# Altium schematic symbol library Schlib1_1.SchLib: 12 symbols
Pins are listed as number, name and electrical type; pins without a type are passive.

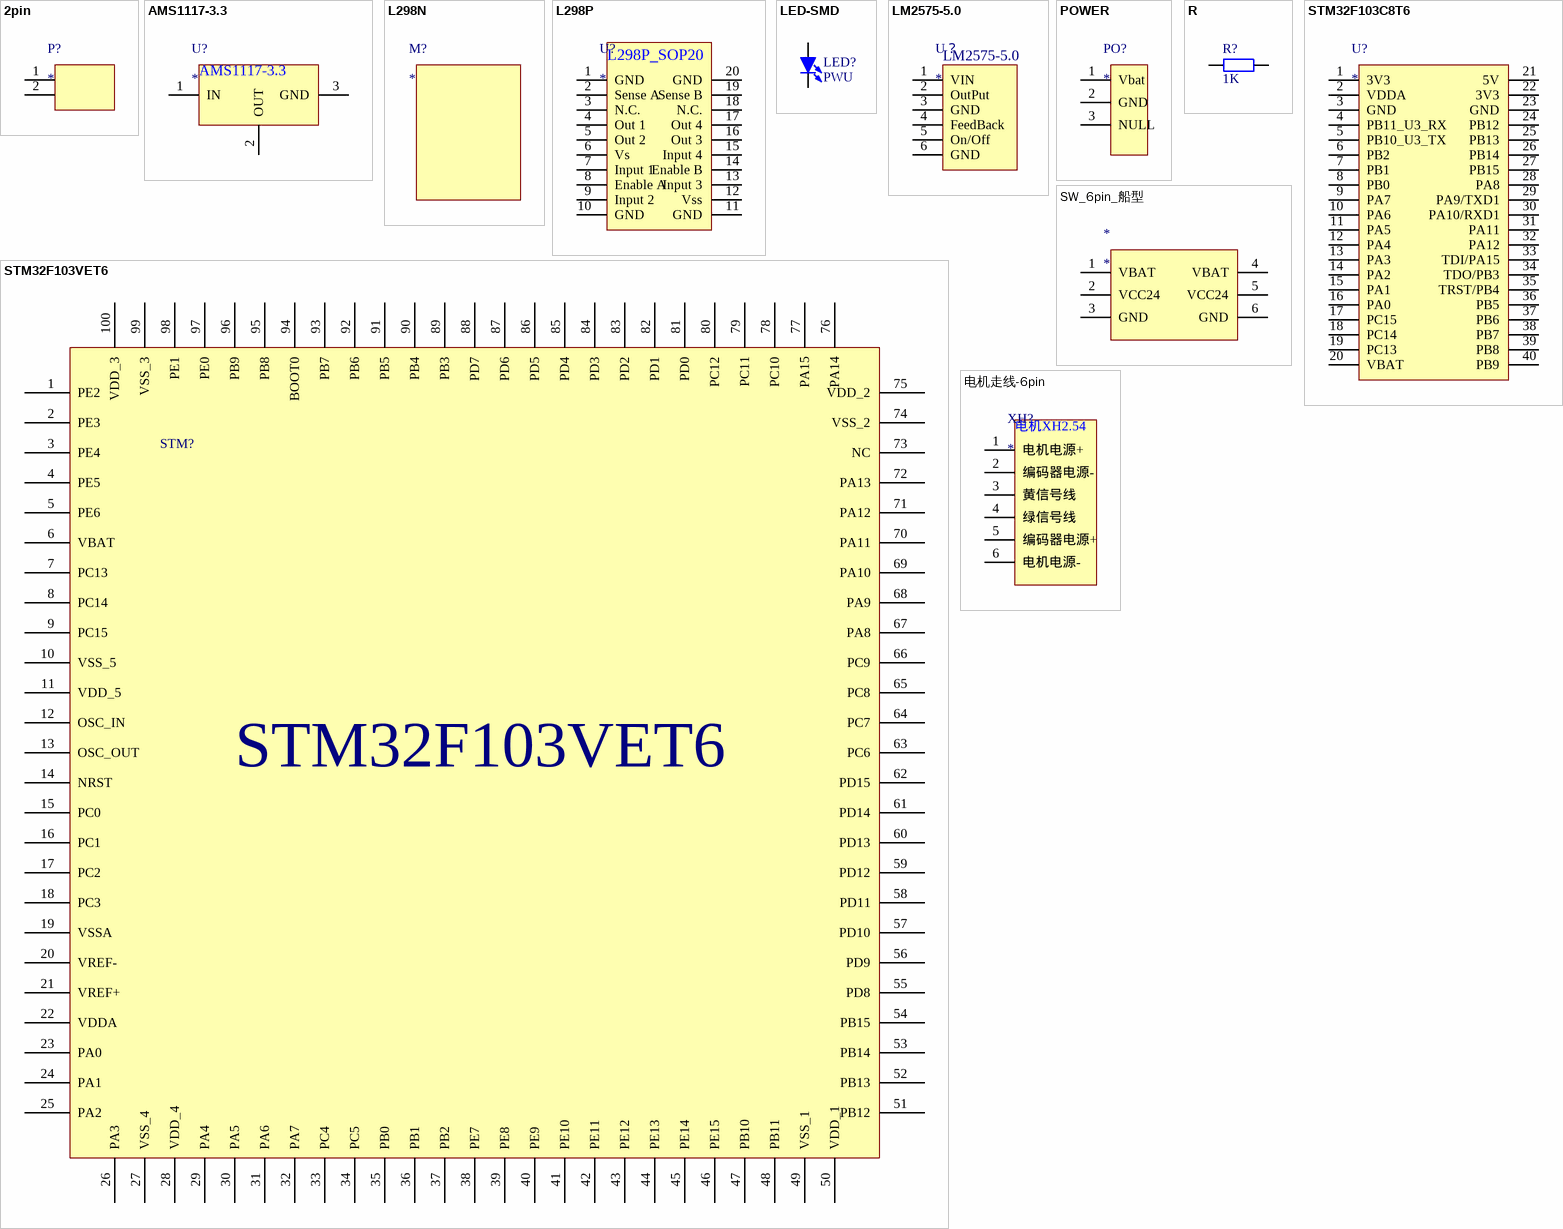
[diagram p0: symbols 2pin to 电机走线-6pin]

## 2pin
designator P?
pins: 1, 2

## AMS1117-3.3
designator U?
pins: 1 IN, 2 OUT, 3 GND

## L298N
designator M?
买好的L298N模块

## L298P
designator U?
pins: 1 GND, 2 Sense A, 3 N.C., 4 Out 1, 5 Out 2, 6 Vs, 7 Input 1, 8 Enable A, 9 Input 2, 10 GND, 11 GND, 12 Vss, 13 Input 3, 14 Enable B, 15 Input 4, 16 Out 3, 17 Out 4, 18 N.C., 19 Sense B, 20 GND
text: L298P_SOP20

## LED-SMD
designator LED?, comment PWU
贴片LED; 版权归属: 黎明电子style; BOM名称: 贴片LED; 学习资源: https://lmdzstyle.taobao.com/
footprint LED 0603W (白色0603LED)
footprint LED 0603R (红色0603LED)
footprint LED 0603B (蓝色0603LED)
footprint LED 0603G (绿色0603LED)
footprint LED 0603Y (黄色0603LED)
footprint LED 0805G (绿色0805LED)
footprint PCBComponent_1
footprint LED 0805B (蓝色0805LED)
footprint LED 0805Y (黄色0805LED)
footprint LED 3528 (白色3528LED)
footprint LED 1206G (绿色1206LED)
footprint LED 5730-V (紫色5730LED)
footprint LED 1206Y (黄色1206LED)
footprint LED 0805W (白色0805LED)
footprint LED 1206B (蓝色1206LED)
footprint LED 1206W (白色1206LED)
footprint LED 1206R (红色1206LED)
pins: 1 A, 2 K

## LM2575-5.0
designator U？
降压芯片
pins: 1 VIN, 2 OutPut, 3 GND, 4 FeedBack, 5 On/Off, 6 GND

## POWER
designator PO?
pins: 1 Vbat, 2 GND, 3 NULL

## R
designator R?, comment 1K
贴片电阻; 版权归属: 黎明电子style; BOM名称: 贴片电阻; 学习资源: https://lmdzstyle.taobao.com/
footprint R 0201 (1/20W贴片电阻)
footprint R 0201-HP (1/20W高精度贴片电阻)
footprint R 0402 (1/16W贴片电阻)
footprint R 0402-HP (1/16W高精度贴片电阻)
footprint R 0603 (1/10W贴片电阻)
footprint R 0603-HP (1/10W高精度贴片电阻)
footprint PCBComponent_1
footprint R 0805-HP (1/8W高精度贴片电阻)
footprint R 1206 (1/4W贴片电阻)
footprint R 1206-HP (1/4W高精度贴片电阻)
footprint R 1210 (1/3W贴片电阻)
footprint R 1210-HP (1/3W高精度贴片电阻)
footprint R 1812 (1/2W贴片电阻)
footprint R 1812-HP (1/2W高精度贴片电阻)
footprint R 2010 (3/4W贴片电阻)
footprint R 2010-HP (3/4W高精度贴片电阻)
footprint R 2512 (1W贴片电阻)
footprint R 2512-HP (1W高精度贴片电阻)
pins: 1, 2

## STM32F103C8T6
designator U?
telesky家的STM32F103C8T6
pins: 1 3V3, 2 VDDA, 3 GND, 4 PB11_U3_RX, 5 PB10_U3_TX, 6 PB2, 7 PB1, 8 PB0, 9 PA7, 10 PA6, 11 PA5, 12 PA4, 13 PA3, 14 PA2, 15 PA1, 16 PA0, 17 PC15, 18 PC14, 19 PC13, 20 VBAT, 21 5V, 22 3V3, 23 GND, 24 PB12, 25 PB13, 26 PB14, 27 PB15, 28 PA8, 29 PA9/TXD1, 30 PA10/RXD1, 31 PA11, 32 PA12, 33 TDI/PA15, 34 TDO/PB3, 35 TRST/PB4, 36 PB5, 37 PB6, 38 PB7, 39 PB8, 40 PB9

## STM32F103VET6
designator STM?  (value not drawn)
芯片
footprint LQFP 100
pins: 1 PE2, 2 PE3, 3 PE4, 4 PE5, 5 PE6, 6 VBAT, 7 PC13, 8 PC14, 9 PC15, 10 VSS_5, 11 VDD_5, 12 OSC_IN, 13 OSC_OUT, 14 NRST, 15 PC0, 16 PC1, 17 PC2, 18 PC3, 19 VSSA, 20 VREF-, 21 VREF+, 22 VDDA, 23 PA0, 24 PA1, 25 PA2, 26 PA3, 27 VSS_4, 28 VDD_4, 29 PA4, 30 PA5, 31 PA6, 32 PA7, 33 PC4, 34 PC5, 35 PB0, 36 PB1, 37 PB2, 38 PE7, 39 PE8, 40 PE9, 41 PE10, 42 PE11, 43 PE12, 44 PE13, 45 PE14, 46 PE15, 47 PB10, 48 PB11, 49 VSS_1, 50 VDD_1, 51 PB12, 52 PB13, 53 PB14, 54 PB15, 55 PD8, 56 PD9, 57 PD10, 58 PD11, 59 PD12, 60 PD13, 61 PD14, 62 PD15, 63 PC6, 64 PC7, 65 PC8, 66 PC9, 67 PA8, 68 PA9, 69 PA10, 70 PA11, 71 PA12, 72 PA13, 73 NC, 74 VSS_2, 75 VDD_2, 76 PA14, 77 PA15, 78 PC10, 79 PC11, 80 PC12, 81 PD0, 82 PD1, 83 PD2, 84 PD3, 85 PD4, 86 PD5, 87 PD6, 88 PD7, 89 PB3, 90 PB4, 91 PB5, 92 PB6, 93 PB7, 94 BOOT0, 95 PB8, 96 PB9, 97 PE0, 98 PE1, 99 VSS_3, 100 VDD_3

## SW_6pin_船型
designator *
pins: 1 VBAT, 2 VCC24, 3 GND, 4 VBAT, 5 VCC24, 6 GND

## 电机走线-6pin
designator XH?
pins: 1 电机电源+, 2 编码器电源-, 3 黄信号线, 4 绿信号线, 5 编码器电源+, 6 电机电源-
text: 电机XH2.54